# Altium footprint library FA128320000MF10ZAJ5.PcbLib: 1 footprints
Each footprint in its own frame and in the unit in brackets; x right, y up, seen from the top. Pads: shape width x height; smd on the part's side, far side on the other; paste and mask are expansions set on the pad; w line width, h text height; cw(c..) or ccw(c..) is an arc to the next point about the centre after c.
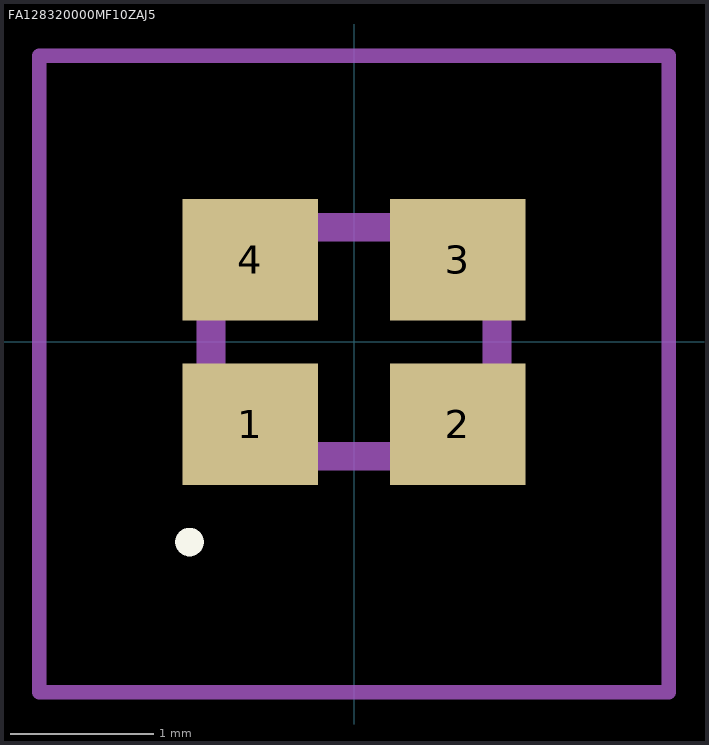
[diagram p0: the footprint, top view; thin cyan lines are the x and y axes]

## FA128320000MF10ZAJ5 [mm]
pads (4):
  rect 0.95x0.85 smd: 1(-0.725,-0.575) 2(0.725,-0.575) 3(0.725,0.575) 4(-0.725,0.575)
Top Overlay:
  lines w0.1: -1.2,-1.4 -1.2,-1.4 ; -1.2,-1.4 ccw(c-1.15,-1.4) -1.1,-1.4 ; -1.2,-1.4 cw(c-1.15,-1.4) -1.1,-1.4 ; -1.1,-1.4 -1.1,-1.4
Mechanical 15:
  lines w0.2: -1,-0.8 1,-0.8 1,0.8 -1,0.8 -1,-0.8
Mechanical 20:
  lines w0.1: -2.2,-2.45 2.2,-2.45 2.2,2 -2.2,2 -2.2,-2.45